# Altium schematic symbol library 天线.SchLib: 3 symbols
Pins are listed as number, name and electrical type; pins without a type are passive.

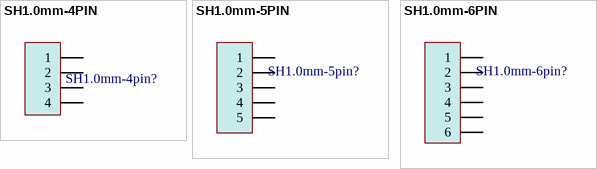
[diagram p0: symbols SH1.0mm-4PIN to SH1.0mm-6PIN]

## SH1.0mm-4PIN
designator SH1.0mm-4pin?  (value not drawn)
footprint SH1.0mm-4PIN
pins: 1, 2, 3, 4

## SH1.0mm-5PIN
designator SH1.0mm-5pin?  (value not drawn)
footprint SH1.0MM-5PIN
pins: 1, 2, 3, 4, 5

## SH1.0mm-6PIN
designator SH1.0mm-6pin?  (value not drawn)
footprint SH1.0mm-6PIN
pins: 1, 2, 3, 4, 5, 6